# EAGLE library part ADNS-3080 (library kitt.ic)
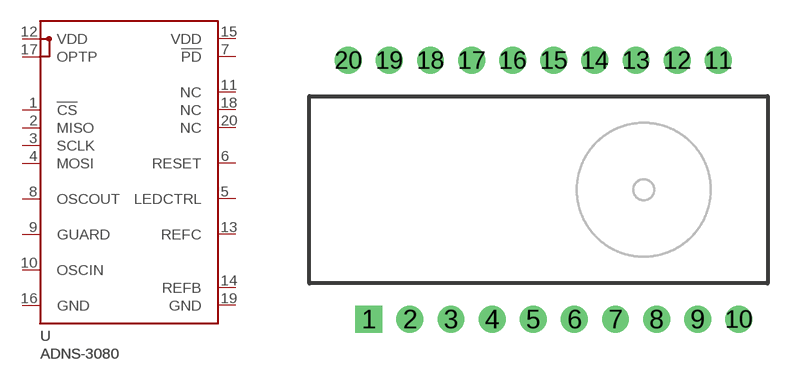
[diagram p0: symbol with the pads of ADNS-3080; footprint ADNS-3080]

Designator prefix U

## ADNS-3080  [ADNS-3080]
1  !CS  in
2  MISO  out
3  SCLK  in
4  MOSI  in
5  LEDCTRL  out
6  RESET  in
7  !PD  in
8  OSCOUT  out
9  GUARD  pwr
10  OSCIN  in
11  NC  nc
12  VDD  pwr
13  REFC  in
14  REFB  in
15  VDD  pwr
16  GND  pwr
17  OPTP  oc
18  NC  nc
19  GND  pwr
20  NC  nc

## Footprint ADNS-3080 (pad centres in mm)
drill 0.8 square: 1 -8.126,-6.3
drill 0.8: 2 -6.126,-6.3; 3 -4.126,-6.3; 4 -2.126,-6.3; 5 -0.126,-6.3; 6 1.874,-6.3; 7 3.874,-6.3; 8 5.874,-6.3; 9 7.874,-6.3; 10 9.874,-6.3; 11 8.874,6.3; 12 6.874,6.3; 13 4.874,6.3; 14 2.874,6.3; 15 0.874,6.3; 16 -1.126,6.3; 17 -3.126,6.3; 18 -5.126,6.3; 19 -7.126,6.3; 20 -9.126,6.3